# Altium schematic symbol library ESQ-106-14-G-D.SchLib: 1 symbol
Pins are listed as number, name and electrical type; pins without a type are passive.

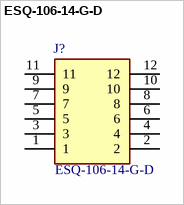
[diagram p0: symbol ESQ-106-14-G-D]

## ESQ-106-14-G-D
designator J?
12 Position, Elevated Socket Strip, 0.100&quot; Pitch; Manufacturer_Name: SAMTEC; Manufacturer_Part_Number: ESQ-106-14-G-D; Mouser Part Number: 200-ESQ10614GD; Mouser Price/Stock: https://www.mouser.co.uk/ProductDetail/Samtec/ESQ-106-14-G-D?qs=0lQeLiL1qybkPQShhYifng%3D%3D; Arrow Part Number: *; Arrow Price/Stock: *; Datasheet Link: http://suddendocs.samtec.com/prints/esq-1xx-xx-x-x-xxx-xx-x-xx-mkt.pdf
footprint ESQ-106-Y-X-D
pins: 1, 2, 3, 4, 5, 6, 7, 8, 9, 10, 11, 12